# EAGLE library part HEADER_DIL_2X20 (library Header SMT)
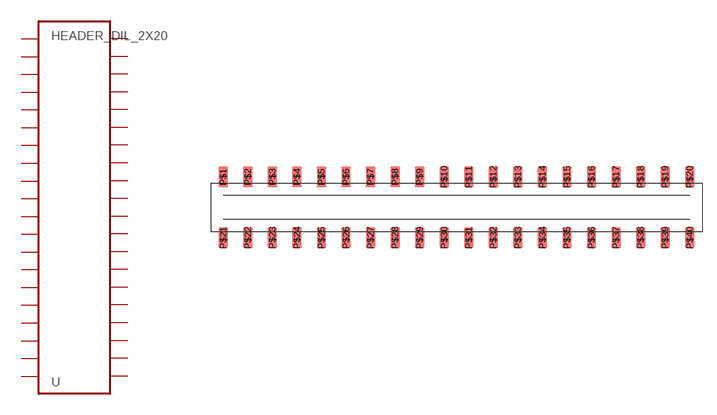
[diagram p0: symbol with the pads of HEADER_DIL_2X20; footprint HEADER_DIL_2X20]

Designator prefix -

## HEADER_DIL_2X20  [HEADER_DIL_2X20]
P$1  P$1
P$2  P$2
P$3  P$3
P$4  P$4
P$5  P$5
P$6  P$6
P$7  P$7
P$8  P$8
P$9  P$9
P$10  P$10
P$11  P$11
P$12  P$12
P$13  P$13
P$14  P$14
P$15  P$15
P$16  P$16
P$17  P$17
P$18  P$18
P$19  P$19
P$20  P$20
P$21  P$21
P$22  P$22
P$23  P$23
P$24  P$24
P$25  P$25
P$26  P$26
P$27  P$27
P$28  P$28
P$29  P$29
P$30  P$30
P$31  P$31
P$32  P$32
P$33  P$33
P$34  P$34
P$35  P$35
P$36  P$36
P$37  P$37
P$38  P$38
P$39  P$39
P$40  P$40

## Footprint HEADER_DIL_2X20 (pad centres in mm)
smd 1.02 x 2.1: P$1 0,3.15; P$2 2.54,3.15; P$3 5.08,3.15; P$4 7.62,3.15; P$5 10.16,3.15; P$6 12.7,3.15; P$7 15.24,3.15; P$8 17.78,3.15; P$9 20.32,3.15; P$10 22.86,3.15; P$11 25.4,3.15; P$12 27.94,3.15; P$13 30.48,3.15; P$14 33.02,3.15; P$15 35.56,3.15; P$16 38.1,3.15; P$17 40.64,3.15; P$18 43.18,3.15; P$19 45.72,3.15; P$20 48.26,3.15; P$21 0,-3.15; P$22 2.54,-3.15; P$23 5.08,-3.15; P$24 7.62,-3.15; P$25 10.16,-3.15; P$26 12.7,-3.15; P$27 15.24,-3.15; P$28 17.78,-3.15; P$29 20.32,-3.15; P$30 22.86,-3.15; P$31 25.4,-3.15; P$32 27.94,-3.15; P$33 30.48,-3.15; P$34 33.02,-3.15; P$35 35.56,-3.15; P$36 38.1,-3.15; P$37 40.64,-3.15; P$38 43.18,-3.15; P$39 45.72,-3.15; P$40 48.26,-3.15